# Altium integrated library Altium_WCAP-CSSA (rev22a).IntLib: 34 symbols
Pins are listed as number, name and electrical type; pins without a type are passive.

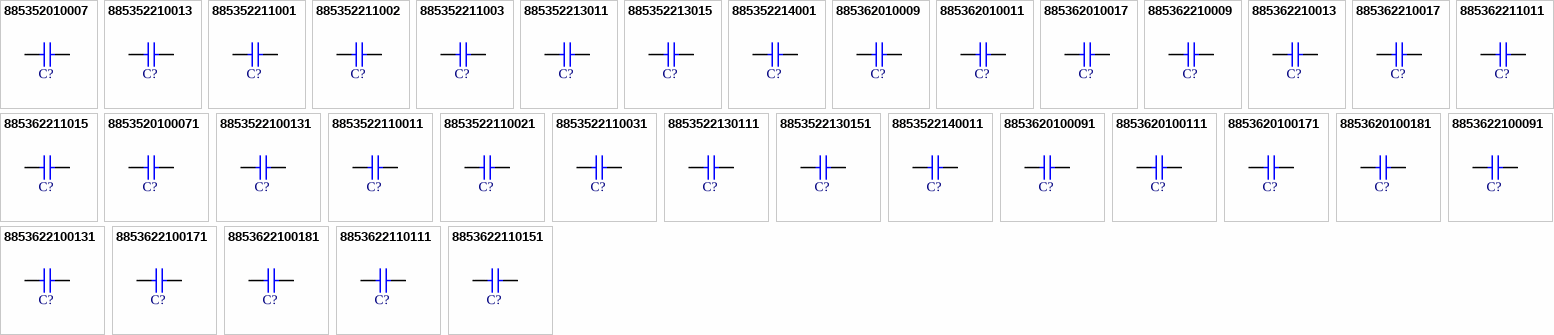
[diagram p0: symbols 885352010007 to 8853622110151]

## 885352010007
designator C?, comment 33pF  (value not drawn)
WCAP-CSSA Multilayer Ceramic Chip Safety Capacitor, 1808, NP0 Class I, X1/Y2, 33pF, 250VAC; Manufacturer: Wurth Elektronik; Manufacturer Part Number: 885352010007; Case/Size Code: 1808; Capacitance Tolerance: +/-5%; Dissipation Factor: 0.1%; Impulse Voltage: 5000VDC; Insulation Resistance: 100GOhm; Rated Voltage (AC): 250V; Technical Reference: NP01808330JE00IFCT10000; ComponentLink1Description: Manufacturer Link; ComponentLink1URL: https://www.we-online.com/redexpert/article/885352010007?ad; ComponentLink2Description: Datasheet; ComponentLink2URL: https://www.we-online.com/redexpert/spec/885352010007?ad; Category: Multilayer Ceramic Chip Capacitors; Match Code: WCAP-CSSA; Mount: Surface Mount; Operating Temperature Max: 125°C; Operating Temperature Min: -55°C; Packaging: Tape and Reel; Length: 4.5mm; Width: 2mm; Height: 1.4mm; Capacitance: 33pF; Ceramic Type: NP0 Class I; Safety Class: X1/Y2
footprint WCAP-CSSA_1808_L4.5W2H1.4
pins: 1, 2

## 885352210013
designator C?, comment 1nF  (value not drawn)
WCAP-CSSA Multilayer Ceramic Chip Safety Capacitor, 1808, X7R Class II, X1/Y2, 1nF, 250VAC; Manufacturer: Wurth Elektronik; Manufacturer Part Number: 885352210013; Case/Size Code: 1808; Capacitance Tolerance: +/-10%; Dissipation Factor: 2.5%; Impulse Voltage: 5000VDC; Insulation Resistance: 10GOhm; Rated Voltage (AC): 250V; Technical Reference: X7R1808102KE00IFCT10000; ComponentLink1Description: Manufacturer Link; ComponentLink1URL: https://www.we-online.com/redexpert/article/885352210013?ad; ComponentLink2Description: Datasheet; ComponentLink2URL: https://www.we-online.com/redexpert/spec/885352210013?ad; Category: Multilayer Ceramic Chip Capacitors; Match Code: WCAP-CSSA; Mount: Surface Mount; Operating Temperature Max: 125°C; Operating Temperature Min: -55°C; Packaging: Tape and Reel; Length: 4.5mm; Width: 2mm; Height: 2mm; Capacitance: 1nF; Ceramic Type: X7R Class II; Safety Class: X1/Y2
footprint WCAP-CSSA_1808_L4.5W2H2
pins: 1, 2

## 885352211001
designator C?, comment 470pF  (value not drawn)
WCAP-CSSA Multilayer Ceramic Chip Safety Capacitor, 1812, X7R Class II, X1/Y2, 470pF, 250VAC; Manufacturer: Wurth Elektronik; Manufacturer Part Number: 885352211001; Case/Size Code: 1812; Capacitance Tolerance: +/-10%; Dissipation Factor: 2.5%; Impulse Voltage: 5000VDC; Insulation Resistance: 10GOhm; Rated Voltage (AC): 250V; Technical Reference: X7R1812471KE00IFCT10000; ComponentLink1Description: Manufacturer Link; ComponentLink1URL: https://www.we-online.com/redexpert/article/885352211001?ad; ComponentLink2Description: Datasheet; ComponentLink2URL: https://www.we-online.com/redexpert/spec/885352211001?ad; Category: Multilayer Ceramic Chip Capacitors; Match Code: WCAP-CSSA; Mount: Surface Mount; Operating Temperature Max: 125°C; Operating Temperature Min: -55°C; Packaging: Tape and Reel; Length: 4.5mm; Width: 3.2mm; Height: 1.6mm; Capacitance: 470pF; Ceramic Type: X7R Class II; Safety Class: X1/Y2
footprint WCAP-CSSA_1812_L4.5W3.2H1.6
pins: 1, 2

## 885352211002
designator C?, comment 680pF  (value not drawn)
WCAP-CSSA Multilayer Ceramic Chip Safety Capacitor, 1812, X7R Class II, X1/Y2, 680pF, 250VAC; Manufacturer: Wurth Elektronik; Manufacturer Part Number: 885352211002; Case/Size Code: 1812; Capacitance Tolerance: +/-10%; Dissipation Factor: 2.5%; Impulse Voltage: 5000VDC; Insulation Resistance: 10GOhm; Rated Voltage (AC): 250V; Technical Reference: X7R1812681KE00IFCT10000; ComponentLink1Description: Manufacturer Link; ComponentLink1URL: https://www.we-online.com/redexpert/article/885352211002?ad; ComponentLink2Description: Datasheet; ComponentLink2URL: https://www.we-online.com/redexpert/spec/885352211002?ad; Category: Multilayer Ceramic Chip Capacitors; Match Code: WCAP-CSSA; Mount: Surface Mount; Operating Temperature Max: 125°C; Operating Temperature Min: -55°C; Packaging: Tape and Reel; Length: 4.5mm; Width: 3.2mm; Height: 2mm; Capacitance: 680pF; Ceramic Type: X7R Class II; Safety Class: X1/Y2
footprint WCAP-CSSA_1812_L4.5W3.2H2
pins: 1, 2

## 885352211003
designator C?, comment 1nF  (value not drawn)
WCAP-CSSA Multilayer Ceramic Chip Safety Capacitor, 1812, X7R Class II, X1/Y2, 1nF, 250VAC; Manufacturer: Wurth Elektronik; Manufacturer Part Number: 885352211003; Case/Size Code: 1812; Capacitance Tolerance: +/-10%; Dissipation Factor: 2.5%; Impulse Voltage: 5000VDC; Insulation Resistance: 10GOhm; Rated Voltage (AC): 250V; Technical Reference: X7R1812102KE00IFCT10000; ComponentLink1Description: Manufacturer Link; ComponentLink1URL: https://www.we-online.com/redexpert/article/885352211003?ad; ComponentLink2Description: Datasheet; ComponentLink2URL: https://www.we-online.com/redexpert/spec/885352211003?ad; Category: Multilayer Ceramic Chip Capacitors; Match Code: WCAP-CSSA; Mount: Surface Mount; Operating Temperature Max: 125°C; Operating Temperature Min: -55°C; Packaging: Tape and Reel; Length: 4.5mm; Width: 3.2mm; Height: 2.5mm; Capacitance: 1nF; Ceramic Type: X7R Class II; Safety Class: X1/Y2
footprint WCAP-CSSA_1812_L4.5W3.2H2.5
pins: 1, 2

## 885352213011
designator C?, comment 1nF  (value not drawn)
WCAP-CSSA Multilayer Ceramic Chip Safety Capacitor, 2211, X7R Class II, X1/Y2, 1nF, 250VAC; Manufacturer: Wurth Elektronik; Manufacturer Part Number: 885352213011; Case/Size Code: 2211; Capacitance Tolerance: +/-10%; Dissipation Factor: 2.5%; Impulse Voltage: 5000VDC; Insulation Resistance: 10GOhm; Rated Voltage (AC): 250V; Technical Reference: X7R2211102KE00IFCT10000; ComponentLink1Description: Manufacturer Link; ComponentLink1URL: https://www.we-online.com/redexpert/article/885352213011?ad; ComponentLink2Description: Datasheet; ComponentLink2URL: https://www.we-online.com/redexpert/spec/885352213011?ad; Category: Multilayer Ceramic Chip Capacitors; Match Code: WCAP-CSSA; Mount: Surface Mount; Operating Temperature Max: 125°C; Operating Temperature Min: -55°C; Packaging: Tape and Reel; Length: 5.7mm; Width: 2.8mm; Height: 2.5mm; Capacitance: 1nF; Ceramic Type: X7R Class II; Safety Class: X1/Y2
footprint WCAP-CSSA_2211_L5.7W2.8H2.5
pins: 1, 2

## 885352213015
designator C?, comment 2.2nF  (value not drawn)
WCAP-CSSA Multilayer Ceramic Chip Safety Capacitor, 2211, X7R Class II, X1/Y2, 2.2nF, 250VAC; Manufacturer: Wurth Elektronik; Manufacturer Part Number: 885352213015; Case/Size Code: 2211; Capacitance Tolerance: +/-10%; Dissipation Factor: 2.5%; Impulse Voltage: 5000VDC; Insulation Resistance: 10GOhm; Rated Voltage (AC): 250V; Technical Reference: X7R2211222KE00IFCT10000; ComponentLink1Description: Manufacturer Link; ComponentLink1URL: https://www.we-online.com/redexpert/article/885352213015?ad; ComponentLink2Description: Datasheet; ComponentLink2URL: https://www.we-online.com/redexpert/spec/885352213015?ad; Category: Multilayer Ceramic Chip Capacitors; Match Code: WCAP-CSSA; Mount: Surface Mount; Operating Temperature Max: 125°C; Operating Temperature Min: -55°C; Packaging: Tape and Reel; Length: 5.7mm; Width: 2.8mm; Height: 2.5mm; Capacitance: 2.2nF; Ceramic Type: X7R Class II; Safety Class: X1/Y2
footprint WCAP-CSSA_2211_L5.7W2.8H2.5
pins: 1, 2

## 885352214001
designator C?, comment 4.7nF  (value not drawn)
WCAP-CSSA Multilayer Ceramic Chip Safety Capacitor, 2220, X7R Class II, X1/Y2, 4.7nF, 250VAC; Manufacturer: Wurth Elektronik; Manufacturer Part Number: 885352214001; Case/Size Code: 2220; Capacitance Tolerance: +/-10%; Dissipation Factor: 2.5%; Impulse Voltage: 5000VDC; Insulation Resistance: 10GOhm; Rated Voltage (AC): 250V; Technical Reference: X7R2220472KE00IFCT10000; ComponentLink1Description: Manufacturer Link; ComponentLink1URL: https://www.we-online.com/redexpert/article/885352214001?ad; ComponentLink2Description: Datasheet; ComponentLink2URL: https://www.we-online.com/redexpert/spec/885352214001?ad; Category: Multilayer Ceramic Chip Capacitors; Match Code: WCAP-CSSA; Mount: Surface Mount; Operating Temperature Max: 125°C; Operating Temperature Min: -55°C; Packaging: Tape and Reel; Length: 5.7mm; Width: 5mm; Height: 2.5mm; Capacitance: 4.7nF; Ceramic Type: X7R Class II; Safety Class: X1/Y2
footprint WCAP-CSSA_2220_L5.7W5H2.5
pins: 1, 2

## 885362010009
designator C?, comment 33pF  (value not drawn)
WCAP-CSSA Multilayer Ceramic Chip Safety Capacitor, 1808, NP0 Class I, X2, 33pF, 250VAC; Manufacturer: Wurth Elektronik; Manufacturer Part Number: 885362010009; Case/Size Code: 1808; Capacitance Tolerance: +/-5%; Dissipation Factor: 0.1%; Impulse Voltage: 2500VDC; Insulation Resistance: 100GOhm; Rated Voltage (AC): 250V; Technical Reference: NP01808330JB50IFCT10000; ComponentLink1Description: Manufacturer Link; ComponentLink1URL: https://www.we-online.com/redexpert/article/885362010009?ad; ComponentLink2Description: Datasheet; ComponentLink2URL: https://www.we-online.com/redexpert/spec/885362010009?ad; Category: Multilayer Ceramic Chip Capacitors; Match Code: WCAP-CSSA; Mount: Surface Mount; Operating Temperature Max: 125°C; Operating Temperature Min: -55°C; Packaging: Tape and Reel; Length: 4.5mm; Width: 2mm; Height: 1.4mm; Capacitance: 33pF; Ceramic Type: NP0 Class I; Safety Class: X2
footprint WCAP-CSSA_1808_L4.5W2H1.4
pins: 1, 2

## 885362010011
designator C?, comment 47pF  (value not drawn)
WCAP-CSSA Multilayer Ceramic Chip Safety Capacitor, 1808, NP0 Class I, X2, 47pF, 250VAC; Manufacturer: Wurth Elektronik; Manufacturer Part Number: 885362010011; Case/Size Code: 1808; Capacitance Tolerance: +/-5%; Dissipation Factor: 0.1%; Impulse Voltage: 2500VDC; Insulation Resistance: 100GOhm; Rated Voltage (AC): 250V; Technical Reference: NP01808470JB50IFCT10000; ComponentLink1Description: Manufacturer Link; ComponentLink1URL: https://www.we-online.com/redexpert/article/885362010011?ad; ComponentLink2Description: Datasheet; ComponentLink2URL: https://www.we-online.com/redexpert/spec/885362010011?ad; Category: Multilayer Ceramic Chip Capacitors; Match Code: WCAP-CSSA; Mount: Surface Mount; Operating Temperature Max: 125°C; Operating Temperature Min: -55°C; Packaging: Tape and Reel; Length: 4.5mm; Width: 2mm; Height: 1.6mm; Capacitance: 47pF; Ceramic Type: NP0 Class I; Safety Class: X2
footprint WCAP-CSSA_1808_L4.5W2H1.6
pins: 1, 2

## 885362010017
designator C?, comment 100pF  (value not drawn)
WCAP-CSSA Multilayer Ceramic Chip Safety Capacitor, 1808, NP0 Class I, X2, 100pF, 250VAC; Manufacturer: Wurth Elektronik; Manufacturer Part Number: 885362010017; Case/Size Code: 1808; Capacitance Tolerance: +/-5%; Dissipation Factor: 0.1%; Impulse Voltage: 2500VDC; Insulation Resistance: 100GOhm; Rated Voltage (AC): 250V; Technical Reference: NP01808101JB50IFCT10000; ComponentLink1Description: Manufacturer Link; ComponentLink1URL: https://www.we-online.com/redexpert/article/885362010017?ad; ComponentLink2Description: Datasheet; ComponentLink2URL: https://www.we-online.com/redexpert/spec/885362010017?ad; Category: Multilayer Ceramic Chip Capacitors; Match Code: WCAP-CSSA; Mount: Surface Mount; Operating Temperature Max: 125°C; Operating Temperature Min: -55°C; Packaging: Tape and Reel; Length: 4.5mm; Width: 2mm; Height: 2mm; Capacitance: 100pF; Ceramic Type: NP0 Class I; Safety Class: X2
footprint WCAP-CSSA_1808_L4.5W2H2
pins: 1, 2

## 885362210009
designator C?, comment 470pF  (value not drawn)
WCAP-CSSA Multilayer Ceramic Chip Safety Capacitor, 1808, X7R Class II, X2, 470pF, 250VAC; Manufacturer: Wurth Elektronik; Manufacturer Part Number: 885362210009; Case/Size Code: 1808; Capacitance Tolerance: +/-10%; Dissipation Factor: 2.5%; Impulse Voltage: 2500VDC; Insulation Resistance: 10GOhm; Rated Voltage (AC): 250V; Technical Reference: X7R1808471KB50IFCT10000; ComponentLink1Description: Manufacturer Link; ComponentLink1URL: https://www.we-online.com/redexpert/article/885362210009?ad; ComponentLink2Description: Datasheet; ComponentLink2URL: https://www.we-online.com/redexpert/spec/885362210009?ad; Category: Multilayer Ceramic Chip Capacitors; Match Code: WCAP-CSSA; Mount: Surface Mount; Operating Temperature Max: 125°C; Operating Temperature Min: -55°C; Packaging: Tape and Reel; Length: 4.5mm; Width: 2mm; Height: 1.6mm; Capacitance: 470pF; Ceramic Type: X7R Class II; Safety Class: X2
footprint WCAP-CSSA_1808_L4.5W2H1.6
pins: 1, 2

## 885362210013
designator C?, comment 680pF  (value not drawn)
WCAP-CSSA Multilayer Ceramic Chip Safety Capacitor, 1808, X7R Class II, X2, 680pF, 250VAC; Manufacturer: Wurth Elektronik; Manufacturer Part Number: 885362210013; Case/Size Code: 1808; Capacitance Tolerance: +/-10%; Dissipation Factor: 2.5%; Impulse Voltage: 2500VDC; Insulation Resistance: 10GOhm; Rated Voltage (AC): 250V; Technical Reference: X7R1808681KB50IFCT10000; ComponentLink1Description: Manufacturer Link; ComponentLink1URL: https://www.we-online.com/redexpert/article/885362210013?ad; ComponentLink2Description: Datasheet; ComponentLink2URL: https://www.we-online.com/redexpert/spec/885362210013?ad; Category: Multilayer Ceramic Chip Capacitors; Match Code: WCAP-CSSA; Mount: Surface Mount; Operating Temperature Max: 125°C; Operating Temperature Min: -55°C; Packaging: Tape and Reel; Length: 4.5mm; Width: 2mm; Height: 1.6mm; Capacitance: 680pF; Ceramic Type: X7R Class II; Safety Class: X2
footprint WCAP-CSSA_1808_L4.5W2H1.6
pins: 1, 2

## 885362210017
designator C?, comment 1nF  (value not drawn)
WCAP-CSSA Multilayer Ceramic Chip Safety Capacitor, 1808, X7R Class II, X2, 1nF, 250VAC; Manufacturer: Wurth Elektronik; Manufacturer Part Number: 885362210017; Case/Size Code: 1808; Capacitance Tolerance: +/-10%; Dissipation Factor: 2.5%; Impulse Voltage: 2500VDC; Insulation Resistance: 10GOhm; Rated Voltage (AC): 250V; Technical Reference: X7R1808102KB50IFCT10000; ComponentLink1Description: Manufacturer Link; ComponentLink1URL: https://www.we-online.com/redexpert/article/885362210017?ad; ComponentLink2Description: Datasheet; ComponentLink2URL: https://www.we-online.com/redexpert/spec/885362210017?ad; Category: Multilayer Ceramic Chip Capacitors; Match Code: WCAP-CSSA; Mount: Surface Mount; Operating Temperature Max: 125°C; Operating Temperature Min: -55°C; Packaging: Tape and Reel; Length: 4.5mm; Width: 2mm; Height: 2mm; Capacitance: 1nF; Ceramic Type: X7R Class II; Safety Class: X2
footprint WCAP-CSSA_1808_L4.5W2H2
pins: 1, 2

## 885362211011
designator C?, comment 1nF  (value not drawn)
WCAP-CSSA Multilayer Ceramic Chip Safety Capacitor, 1812, X7R Class II, X2, 1nF, 250VAC; Manufacturer: Wurth Elektronik; Manufacturer Part Number: 885362211011; Case/Size Code: 1812; Capacitance Tolerance: +/-10%; Dissipation Factor: 2.5%; Impulse Voltage: 2500VDC; Insulation Resistance: 10GOhm; Rated Voltage (AC): 250V; Technical Reference: X7R1812102KB50IFCT10000; ComponentLink1Description: Manufacturer Link; ComponentLink1URL: https://www.we-online.com/redexpert/article/885362211011?ad; ComponentLink2Description: Datasheet; ComponentLink2URL: https://www.we-online.com/redexpert/spec/885362211011?ad; Category: Multilayer Ceramic Chip Capacitors; Match Code: WCAP-CSSA; Mount: Surface Mount; Operating Temperature Max: 125°C; Operating Temperature Min: -55°C; Packaging: Tape and Reel; Length: 4.5mm; Width: 3.2mm; Height: 1.6mm; Capacitance: 1nF; Ceramic Type: X7R Class II; Safety Class: X2
footprint WCAP-CSSA_1812_L4.5W3.2H1.6
pins: 1, 2

## 885362211015
designator C?, comment 2.2nF  (value not drawn)
WCAP-CSSA Multilayer Ceramic Chip Safety Capacitor, 1812, X7R Class II, X2, 2.2nF, 250VAC; Manufacturer: Wurth Elektronik; Manufacturer Part Number: 885362211015; Case/Size Code: 1812; Capacitance Tolerance: +/-10%; Dissipation Factor: 2.5%; Impulse Voltage: 2500VDC; Insulation Resistance: 10GOhm; Rated Voltage (AC): 250V; Technical Reference: X7R1812222KB50IFCT10000; ComponentLink1Description: Manufacturer Link; ComponentLink1URL: https://www.we-online.com/redexpert/article/885362211015?ad; ComponentLink2Description: Datasheet; ComponentLink2URL: https://www.we-online.com/redexpert/spec/885362211015?ad; Category: Multilayer Ceramic Chip Capacitors; Match Code: WCAP-CSSA; Mount: Surface Mount; Operating Temperature Max: 125°C; Operating Temperature Min: -55°C; Packaging: Tape and Reel; Length: 4.5mm; Width: 3.2mm; Height: 2.5mm; Capacitance: 2.2nF; Ceramic Type: X7R Class II; Safety Class: X2
footprint WCAP-CSSA_1812_L4.5W3.2H2.5
pins: 1, 2

## 8853520100071
designator C?, comment 33pF  (value not drawn)
WCAP-CSSA Multilayer Ceramic Chip Safety Capacitor, 1808, NP0 Class I, X1/Y2, 33pF, 250VAC; Manufacturer: Wurth Elektronik; Manufacturer Part Number: 8853520100071; Case/Size Code: 1808; Capacitance Tolerance: +/-5%; Dissipation Factor: 0.1%; Impulse Voltage: 5000VDC; Insulation Resistance: 100GOhm; Rated Voltage (AC): 250V; Technical Reference: NP01808330JE00IFCT1B000; ComponentLink1Description: Manufacturer Link; ComponentLink1URL: https://www.we-online.com/redexpert/article/8853520100071?ad; ComponentLink2Description: Datasheet; ComponentLink2URL: https://www.we-online.com/redexpert/spec/8853520100071?ad; Category: Multilayer Ceramic Chip Capacitors; Match Code: WCAP-CSSA; Mount: Surface Mount; Operating Temperature Max: 125°C; Operating Temperature Min: -55°C; Packaging: Tape and Reel; Length: 4.5mm; Width: 2mm; Height: 1.4mm; Capacitance: 33pF; Ceramic Type: NP0 Class I; Safety Class: X1/Y2
footprint WCAP-CSSA_1808_L4.5W2H1.4
pins: 1, 2

## 8853522100131
designator C?, comment 1nF  (value not drawn)
WCAP-CSSA Multilayer Ceramic Chip Safety Capacitor, 1808, X7R Class II, X1/Y2, 1nF, 250VAC; Manufacturer: Wurth Elektronik; Manufacturer Part Number: 8853522100131; Case/Size Code: 1808; Capacitance Tolerance: +/-10%; Dissipation Factor: 2.5%; Impulse Voltage: 5000VDC; Insulation Resistance: 10GOhm; Rated Voltage (AC): 250V; Technical Reference: X7R1808102KE00IFCT1B000; ComponentLink1Description: Manufacturer Link; ComponentLink1URL: https://www.we-online.com/redexpert/article/8853522100131?ad; ComponentLink2Description: Datasheet; ComponentLink2URL: https://www.we-online.com/redexpert/spec/8853522100131?ad; Category: Multilayer Ceramic Chip Capacitors; Match Code: WCAP-CSSA; Mount: Surface Mount; Operating Temperature Max: 125°C; Operating Temperature Min: -55°C; Packaging: Tape and Reel; Length: 4.5mm; Width: 2mm; Height: 2mm; Capacitance: 1nF; Ceramic Type: X7R Class II; Safety Class: X1/Y2
footprint WCAP-CSSA_1808_L4.5W2H2
pins: 1, 2

## 8853522110011
designator C?, comment 470pF  (value not drawn)
WCAP-CSSA Multilayer Ceramic Chip Safety Capacitor, 1812, X7R Class II, X1/Y2, 470pF, 250VAC; Manufacturer: Wurth Elektronik; Manufacturer Part Number: 8853522110011; Case/Size Code: 1812; Capacitance Tolerance: +/-10%; Dissipation Factor: 2.5%; Impulse Voltage: 5000VDC; Insulation Resistance: 10GOhm; Rated Voltage (AC): 250V; Technical Reference: X7R1812471KE00IFCT1B000; ComponentLink1Description: Manufacturer Link; ComponentLink1URL: https://www.we-online.com/redexpert/article/8853522110011?ad; ComponentLink2Description: Datasheet; ComponentLink2URL: https://www.we-online.com/redexpert/spec/8853522110011?ad; Category: Multilayer Ceramic Chip Capacitors; Match Code: WCAP-CSSA; Mount: Surface Mount; Operating Temperature Max: 125°C; Operating Temperature Min: -55°C; Packaging: Tape and Reel; Length: 4.5mm; Width: 3.2mm; Height: 1.6mm; Capacitance: 470pF; Ceramic Type: X7R Class II; Safety Class: X1/Y2
footprint WCAP-CSSA_1812_L4.5W3.2H1.6
pins: 1, 2

## 8853522110021
designator C?, comment 680pF  (value not drawn)
WCAP-CSSA Multilayer Ceramic Chip Safety Capacitor, 1812, X7R Class II, X1/Y2, 680pF, 250VAC; Manufacturer: Wurth Elektronik; Manufacturer Part Number: 8853522110021; Case/Size Code: 1812; Capacitance Tolerance: +/-10%; Dissipation Factor: 2.5%; Impulse Voltage: 5000VDC; Insulation Resistance: 10GOhm; Rated Voltage (AC): 250V; Technical Reference: X7R1812681KE00IFCT1B000; ComponentLink1Description: Manufacturer Link; ComponentLink1URL: https://www.we-online.com/redexpert/article/8853522110021?ad; ComponentLink2Description: Datasheet; ComponentLink2URL: https://www.we-online.com/redexpert/spec/8853522110021?ad; Category: Multilayer Ceramic Chip Capacitors; Match Code: WCAP-CSSA; Mount: Surface Mount; Operating Temperature Max: 125°C; Operating Temperature Min: -55°C; Packaging: Tape and Reel; Length: 4.5mm; Width: 3.2mm; Height: 2mm; Capacitance: 680pF; Ceramic Type: X7R Class II; Safety Class: X1/Y2
footprint WCAP-CSSA_1812_L4.5W3.2H2
pins: 1, 2

## 8853522110031
designator C?, comment 1nF  (value not drawn)
WCAP-CSSA Multilayer Ceramic Chip Safety Capacitor, 1812, X7R Class II, X1/Y2, 1nF, 250VAC; Manufacturer: Wurth Elektronik; Manufacturer Part Number: 8853522110031; Case/Size Code: 1812; Capacitance Tolerance: +/-10%; Dissipation Factor: 2.5%; Impulse Voltage: 5000VDC; Insulation Resistance: 10GOhm; Rated Voltage (AC): 250V; Technical Reference: X7R1812102KE00IFCT1B000; ComponentLink1Description: Manufacturer Link; ComponentLink1URL: https://www.we-online.com/redexpert/article/8853522110031?ad; ComponentLink2Description: Datasheet; ComponentLink2URL: https://www.we-online.com/redexpert/spec/8853522110031?ad; Category: Multilayer Ceramic Chip Capacitors; Match Code: WCAP-CSSA; Mount: Surface Mount; Operating Temperature Max: 125°C; Operating Temperature Min: -55°C; Packaging: Tape and Reel; Length: 4.5mm; Width: 3.2mm; Height: 2.5mm; Capacitance: 1nF; Ceramic Type: X7R Class II; Safety Class: X1/Y2
footprint WCAP-CSSA_1812_L4.5W3.2H2.5
pins: 1, 2

## 8853522130111
designator C?, comment 1nF  (value not drawn)
WCAP-CSSA Multilayer Ceramic Chip Safety Capacitor, 2211, X7R Class II, X1/Y2, 1nF, 250VAC; Manufacturer: Wurth Elektronik; Manufacturer Part Number: 8853522130111; Case/Size Code: 2211; Capacitance Tolerance: +/-10%; Dissipation Factor: 2.5%; Impulse Voltage: 5000VDC; Insulation Resistance: 10GOhm; Rated Voltage (AC): 250V; Technical Reference: X7R2211102KE00IFCT1B000; ComponentLink1Description: Manufacturer Link; ComponentLink1URL: https://www.we-online.com/redexpert/article/8853522130111?ad; ComponentLink2Description: Datasheet; ComponentLink2URL: https://www.we-online.com/redexpert/spec/8853522130111?ad; Category: Multilayer Ceramic Chip Capacitors; Match Code: WCAP-CSSA; Mount: Surface Mount; Operating Temperature Max: 125°C; Operating Temperature Min: -55°C; Packaging: Tape and Reel; Length: 5.7mm; Width: 2.8mm; Height: 2.5mm; Capacitance: 1nF; Ceramic Type: X7R Class II; Safety Class: X1/Y2
footprint WCAP-CSSA_2211_L5.7W2.8H2.5
pins: 1, 2

## 8853522130151
designator C?, comment 2.2nF  (value not drawn)
WCAP-CSSA Multilayer Ceramic Chip Safety Capacitor, 2211, X7R Class II, X1/Y2, 2.2nF, 250VAC; Manufacturer: Wurth Elektronik; Manufacturer Part Number: 8853522130151; Case/Size Code: 2211; Capacitance Tolerance: +/-10%; Dissipation Factor: 2.5%; Impulse Voltage: 5000VDC; Insulation Resistance: 10GOhm; Rated Voltage (AC): 250V; Technical Reference: X7R2211222KE00IFCT1B000; ComponentLink1Description: Manufacturer Link; ComponentLink1URL: https://www.we-online.com/redexpert/article/8853522130151?ad; ComponentLink2Description: Datasheet; ComponentLink2URL: https://www.we-online.com/redexpert/spec/8853522130151?ad; Category: Multilayer Ceramic Chip Capacitors; Match Code: WCAP-CSSA; Mount: Surface Mount; Operating Temperature Max: 125°C; Operating Temperature Min: -55°C; Packaging: Tape and Reel; Length: 5.7mm; Width: 2.8mm; Height: 2.5mm; Capacitance: 2.2nF; Ceramic Type: X7R Class II; Safety Class: X1/Y2
footprint WCAP-CSSA_2211_L5.7W2.8H2.5
pins: 1, 2

## 8853522140011
designator C?, comment 4.7nF  (value not drawn)
WCAP-CSSA Multilayer Ceramic Chip Safety Capacitor, 2220, X7R Class II, X1/Y2, 4.7nF, 250VAC; Manufacturer: Wurth Elektronik; Manufacturer Part Number: 8853522140011; Case/Size Code: 2220; Capacitance Tolerance: +/-10%; Dissipation Factor: 2.5%; Impulse Voltage: 5000VDC; Insulation Resistance: 10GOhm; Rated Voltage (AC): 250V; Technical Reference: X7R2220472KE00IFCT1B000; ComponentLink1Description: Manufacturer Link; ComponentLink1URL: https://www.we-online.com/redexpert/article/8853522140011?ad; ComponentLink2Description: Datasheet; ComponentLink2URL: https://www.we-online.com/redexpert/spec/8853522140011?ad; Category: Multilayer Ceramic Chip Capacitors; Match Code: WCAP-CSSA; Mount: Surface Mount; Operating Temperature Max: 125°C; Operating Temperature Min: -55°C; Packaging: Tape and Reel; Length: 5.7mm; Width: 5mm; Height: 2.5mm; Capacitance: 4.7nF; Ceramic Type: X7R Class II; Safety Class: X1/Y2
footprint WCAP-CSSA_2220_L5.7W5H2.5
pins: 1, 2

## 8853620100091
designator C?, comment 33pF  (value not drawn)
WCAP-CSSA Multilayer Ceramic Chip Safety Capacitor, 1808, NP0 Class I, X2, 33pF, 250VAC; Manufacturer: Wurth Elektronik; Manufacturer Part Number: 8853620100091; Case/Size Code: 1808; Capacitance Tolerance: +/-5%; Dissipation Factor: 0.1%; Impulse Voltage: 2500VDC; Insulation Resistance: 100GOhm; Rated Voltage (AC): 250V; Technical Reference: NP01808330JB50IFCT1B000; ComponentLink1Description: Manufacturer Link; ComponentLink1URL: https://www.we-online.com/redexpert/article/8853620100091?ad; ComponentLink2Description: Datasheet; ComponentLink2URL: https://www.we-online.com/redexpert/spec/8853620100091?ad; Category: Multilayer Ceramic Chip Capacitors; Match Code: WCAP-CSSA; Mount: Surface Mount; Operating Temperature Max: 125°C; Operating Temperature Min: -55°C; Packaging: Tape and Reel; Length: 4.5mm; Width: 2mm; Height: 1.4mm; Capacitance: 33pF; Ceramic Type: NP0 Class I; Safety Class: X2
footprint WCAP-CSSA_1808_L4.5W2H1.4
pins: 1, 2

## 8853620100111
designator C?, comment 47pF  (value not drawn)
WCAP-CSSA Multilayer Ceramic Chip Safety Capacitor, 1808, NP0 Class I, X2, 47pF, 250VAC; Manufacturer: Wurth Elektronik; Manufacturer Part Number: 8853620100111; Case/Size Code: 1808; Capacitance Tolerance: +/-5%; Dissipation Factor: 0.1%; Impulse Voltage: 2500VDC; Insulation Resistance: 100GOhm; Rated Voltage (AC): 250V; Technical Reference: NP01808470JB50IFCT1B000; ComponentLink1Description: Manufacturer Link; ComponentLink1URL: https://www.we-online.com/redexpert/article/8853620100111?ad; ComponentLink2Description: Datasheet; ComponentLink2URL: https://www.we-online.com/redexpert/spec/8853620100111?ad; Category: Multilayer Ceramic Chip Capacitors; Match Code: WCAP-CSSA; Mount: Surface Mount; Operating Temperature Max: 125°C; Operating Temperature Min: -55°C; Packaging: Tape and Reel; Length: 4.5mm; Width: 2mm; Height: 1.6mm; Capacitance: 47pF; Ceramic Type: NP0 Class I; Safety Class: X2
footprint WCAP-CSSA_1808_L4.5W2H1.6
pins: 1, 2

## 8853620100171
designator C?, comment 100pF  (value not drawn)
WCAP-CSSA Multilayer Ceramic Chip Safety Capacitor, 1808, NP0 Class I, X2, 100pF, 250VAC; Manufacturer: Wurth Elektronik; Manufacturer Part Number: 8853620100171; Case/Size Code: 1808; Capacitance Tolerance: +/-5%; Dissipation Factor: 0.1%; Impulse Voltage: 2500VDC; Insulation Resistance: 100GOhm; Rated Voltage (AC): 250V; Technical Reference: NP01808101JB50IFCT1B000; ComponentLink1Description: Manufacturer Link; ComponentLink1URL: https://www.we-online.com/redexpert/article/8853620100171?ad; ComponentLink2Description: Datasheet; ComponentLink2URL: https://www.we-online.com/redexpert/spec/8853620100171?ad; Category: Multilayer Ceramic Chip Capacitors; Match Code: WCAP-CSSA; Mount: Surface Mount; Operating Temperature Max: 125°C; Operating Temperature Min: -55°C; Packaging: Tape and Reel; Length: 4.5mm; Width: 2mm; Height: 2mm; Capacitance: 100pF; Ceramic Type: NP0 Class I; Safety Class: X2
footprint WCAP-CSSA_1808_L4.5W2H2
pins: 1, 2

## 8853620100181
designator C?, comment 220pF  (value not drawn)
WCAP-CSSA Multilayer Ceramic Chip Safety Capacitor, 1808, NP0 Class I, X2, 220pF, 250VAC; Manufacturer: Wurth Elektronik; Manufacturer Part Number: 8853620100181; Case/Size Code: 1808; Capacitance Tolerance: +/-5%; Dissipation Factor: 0.1%; Impulse Voltage: 2500VDC; Insulation Resistance: 100GOhm; Rated Voltage (AC): 250V; Technical Reference: NP01808221JB50IFCT1B000; ComponentLink1Description: Manufacturer Link; ComponentLink1URL: https://www.we-online.com/redexpert/article/8853620100181?ad; ComponentLink2Description: Datasheet; ComponentLink2URL: https://www.we-online.com/redexpert/spec/8853620100181?ad; Category: Multilayer Ceramic Chip Capacitors; Match Code: WCAP-CSSA; Mount: Surface Mount; Operating Temperature Max: 125°C; Operating Temperature Min: -55°C; Packaging: Tape and Reel; Length: 4.5mm; Width: 2mm; Height: 2mm; Capacitance: 220pF; Ceramic Type: NP0 Class I; Safety Class: X2
footprint WCAP-CSSA_1808_L4.5W2H2
pins: 1, 2

## 8853622100091
designator C?, comment 470pF  (value not drawn)
WCAP-CSSA Multilayer Ceramic Chip Safety Capacitor, 1808, X7R Class II, X2, 470pF, 250VAC; Manufacturer: Wurth Elektronik; Manufacturer Part Number: 8853622100091; Case/Size Code: 1808; Capacitance Tolerance: +/-10%; Dissipation Factor: 2.5%; Impulse Voltage: 2500VDC; Insulation Resistance: 10GOhm; Rated Voltage (AC): 250V; Technical Reference: X7R1808471KB50IFCT1B000; ComponentLink1Description: Manufacturer Link; ComponentLink1URL: https://www.we-online.com/redexpert/article/8853622100091?ad; ComponentLink2Description: Datasheet; ComponentLink2URL: https://www.we-online.com/redexpert/spec/8853622100091?ad; Category: Multilayer Ceramic Chip Capacitors; Match Code: WCAP-CSSA; Mount: Surface Mount; Operating Temperature Max: 125°C; Operating Temperature Min: -55°C; Packaging: Tape and Reel; Length: 4.5mm; Width: 2mm; Height: 1.6mm; Capacitance: 470pF; Ceramic Type: X7R Class II; Safety Class: X2
footprint WCAP-CSSA_1808_L4.5W2H1.6
pins: 1, 2

## 8853622100131
designator C?, comment 680pF  (value not drawn)
WCAP-CSSA Multilayer Ceramic Chip Safety Capacitor, 1808, X7R Class II, X2, 680pF, 250VAC; Manufacturer: Wurth Elektronik; Manufacturer Part Number: 8853622100131; Case/Size Code: 1808; Capacitance Tolerance: +/-10%; Dissipation Factor: 2.5%; Impulse Voltage: 2500VDC; Insulation Resistance: 10GOhm; Rated Voltage (AC): 250V; Technical Reference: X7R1808681KB50IFCT1B000; ComponentLink1Description: Manufacturer Link; ComponentLink1URL: https://www.we-online.com/redexpert/article/8853622100131?ad; ComponentLink2Description: Datasheet; ComponentLink2URL: https://www.we-online.com/redexpert/spec/8853622100131?ad; Category: Multilayer Ceramic Chip Capacitors; Match Code: WCAP-CSSA; Mount: Surface Mount; Operating Temperature Max: 125°C; Operating Temperature Min: -55°C; Packaging: Tape and Reel; Length: 4.5mm; Width: 2mm; Height: 1.6mm; Capacitance: 680pF; Ceramic Type: X7R Class II; Safety Class: X2
footprint WCAP-CSSA_1808_L4.5W2H1.6
pins: 1, 2

## 8853622100171
designator C?, comment 1nF  (value not drawn)
WCAP-CSSA Multilayer Ceramic Chip Safety Capacitor, 1808, X7R Class II, X2, 1nF, 250VAC; Manufacturer: Wurth Elektronik; Manufacturer Part Number: 8853622100171; Case/Size Code: 1808; Capacitance Tolerance: +/-10%; Dissipation Factor: 2.5%; Impulse Voltage: 2500VDC; Insulation Resistance: 10GOhm; Rated Voltage (AC): 250V; Technical Reference: X7R1808102KB50IFCT1B000; ComponentLink1Description: Manufacturer Link; ComponentLink1URL: https://www.we-online.com/redexpert/article/8853622100171?ad; ComponentLink2Description: Datasheet; ComponentLink2URL: https://www.we-online.com/redexpert/spec/8853622100171?ad; Category: Multilayer Ceramic Chip Capacitors; Match Code: WCAP-CSSA; Mount: Surface Mount; Operating Temperature Max: 125°C; Operating Temperature Min: -55°C; Packaging: Tape and Reel; Length: 4.5mm; Width: 2mm; Height: 2mm; Capacitance: 1nF; Ceramic Type: X7R Class II; Safety Class: X2
footprint WCAP-CSSA_1808_L4.5W2H2
pins: 1, 2

## 8853622100181
designator C?, comment 150pF  (value not drawn)
WCAP-CSSA Multilayer Ceramic Chip Safety Capacitor, 1808, X7R Class II, X2, 150pF, 250VAC; Manufacturer: Wurth Elektronik; Manufacturer Part Number: 8853622100181; Case/Size Code: 1808; Capacitance Tolerance: +/-10%; Dissipation Factor: 2.5%; Impulse Voltage: 2500VDC; Insulation Resistance: 10GOhm; Rated Voltage (AC): 250V; Technical Reference: X7R1808151KB50IFCT1B000; ComponentLink1Description: Manufacturer Link; ComponentLink1URL: https://www.we-online.com/redexpert/article/8853622100181?ad; ComponentLink2Description: Datasheet; ComponentLink2URL: https://www.we-online.com/redexpert/spec/8853622100181?ad; Category: Multilayer Ceramic Chip Capacitors; Match Code: WCAP-CSSA; Mount: Surface Mount; Operating Temperature Max: 125°C; Operating Temperature Min: -55°C; Packaging: Tape and Reel; Length: 4.5mm; Width: 2mm; Height: 1.6mm; Capacitance: 150pF; Ceramic Type: X7R Class II; Safety Class: X2
footprint WCAP-CSSA_1808_L4.5W2H1.6
pins: 1, 2

## 8853622110111
designator C?, comment 1nF  (value not drawn)
WCAP-CSSA Multilayer Ceramic Chip Safety Capacitor, 1812, X7R Class II, X2, 1nF, 250VAC; Manufacturer: Wurth Elektronik; Manufacturer Part Number: 8853622110111; Case/Size Code: 1812; Capacitance Tolerance: +/-10%; Dissipation Factor: 2.5%; Impulse Voltage: 2500VDC; Insulation Resistance: 10GOhm; Rated Voltage (AC): 250V; Technical Reference: X7R1812102KB50IFCT1B000; ComponentLink1Description: Manufacturer Link; ComponentLink1URL: https://www.we-online.com/redexpert/article/8853622110111?ad; ComponentLink2Description: Datasheet; ComponentLink2URL: https://www.we-online.com/redexpert/spec/8853622110111?ad; Category: Multilayer Ceramic Chip Capacitors; Match Code: WCAP-CSSA; Mount: Surface Mount; Operating Temperature Max: 125°C; Operating Temperature Min: -55°C; Packaging: Tape and Reel; Length: 4.5mm; Width: 3.2mm; Height: 1.6mm; Capacitance: 1nF; Ceramic Type: X7R Class II; Safety Class: X2
footprint WCAP-CSSA_1812_L4.5W3.2H1.6
pins: 1, 2

## 8853622110151
designator C?, comment 2.2nF  (value not drawn)
WCAP-CSSA Multilayer Ceramic Chip Safety Capacitor, 1812, X7R Class II, X2, 2.2nF, 250VAC; Manufacturer: Wurth Elektronik; Manufacturer Part Number: 8853622110151; Case/Size Code: 1812; Capacitance Tolerance: +/-10%; Dissipation Factor: 2.5%; Impulse Voltage: 2500VDC; Insulation Resistance: 10GOhm; Rated Voltage (AC): 250V; Technical Reference: X7R1812222KB50IFCT1B000; ComponentLink1Description: Manufacturer Link; ComponentLink1URL: https://www.we-online.com/redexpert/article/8853622110151?ad; ComponentLink2Description: Datasheet; ComponentLink2URL: https://www.we-online.com/redexpert/spec/8853622110151?ad; Category: Multilayer Ceramic Chip Capacitors; Match Code: WCAP-CSSA; Mount: Surface Mount; Operating Temperature Max: 125°C; Operating Temperature Min: -55°C; Packaging: Tape and Reel; Length: 4.5mm; Width: 3.2mm; Height: 2.5mm; Capacitance: 2.2nF; Ceramic Type: X7R Class II; Safety Class: X2
footprint WCAP-CSSA_1812_L4.5W3.2H2.5
pins: 1, 2